# EAGLE library part TX24-50R-6ST-H1E (library con-jae)
CONN RCPT 1.27MM 50POS GOLD PCB
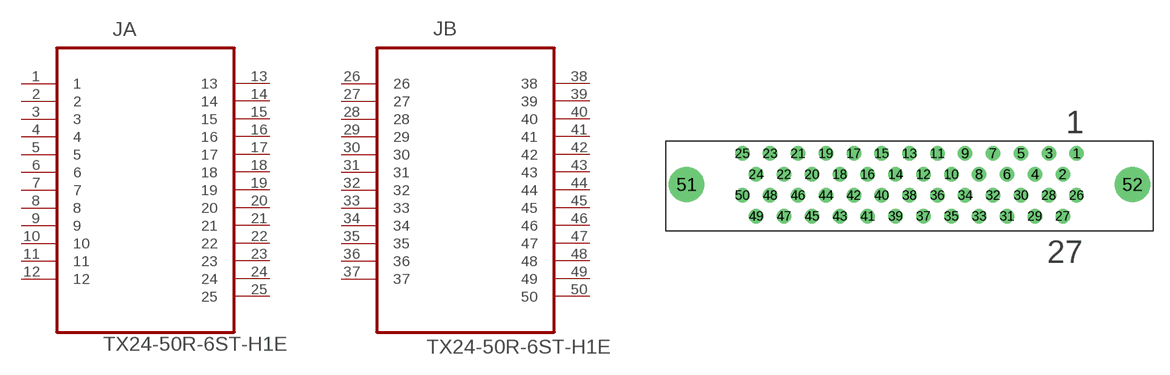
[diagram p12: symbol with the pads of JAE_TX24-50R-6ST-H1E; footprint JAE_TX24-50R-6ST-H1E]

Designator prefix J; gates A=TX24-50R-6ST-H1E_A B=TX24-50R-6ST-H1E_B

## TX24-50R-6ST-H1E (DATASHEETLINK: http://www.jae.com/z-en/pdf_download_exec.cfm?param=SJ037994.pdf; DESCRIPTION: CONN-50POS; MPN: TX24-50R-6ST-H1E; OC_FARNELL: -; OC_NEWARK: 74M4879; ROHS: Yes; SUPPLIER: JAE)  [JAE_TX24-50R-6ST-H1E]
1  A:1  pas
2  A:2  pas
3  A:3  pas
4  A:4  pas
5  A:5  pas
6  A:6  pas
7  A:7  pas
8  A:8  pas
9  A:9  pas
10  A:10  pas
11  A:11  pas
12  A:12  pas
13  A:13  pas
14  A:14  pas
15  A:15  pas
16  A:16  pas
17  A:17  pas
18  A:18  pas
19  A:19  pas
20  A:20  pas
21  A:21  pas
22  A:22  pas
23  A:23  pas
24  A:24  pas
25  A:25  pas
26  B:26  pas
27  B:27  pas
28  B:28  pas
29  B:29  pas
30  B:30  pas
31  B:31  pas
32  B:32  pas
33  B:33  pas
34  B:34  pas
35  B:35  pas
36  B:36  pas
37  B:37  pas
38  B:38  pas
39  B:39  pas
40  B:40  pas
41  B:41  pas
42  B:42  pas
43  B:43  pas
44  B:44  pas
45  B:45  pas
46  B:46  pas
47  B:47  pas
48  B:48  pas
49  B:49  pas
50  B:50  pas

## Footprint JAE_TX24-50R-6ST-H1E (pad centres in mm)
drill 0.813: 1 15.24,-1.143; 2 13.97,-3.048; 3 12.7,-1.143; 4 11.43,-3.048; 5 10.16,-1.143; 6 8.89,-3.048; 7 7.62,-1.143; 8 6.35,-3.048; 9 5.08,-1.143; 10 3.81,-3.048; 11 2.54,-1.143; 12 1.27,-3.048; 13 0,-1.143; 14 -1.27,-3.048; 15 -2.54,-1.143; 16 -3.81,-3.048; 17 -5.08,-1.143; 18 -6.35,-3.048; 19 -7.62,-1.143; 20 -8.89,-3.048; 21 -10.16,-1.143; 22 -11.43,-3.048; 23 -12.7,-1.143; 24 -13.97,-3.048; 25 -15.24,-1.143; 26 15.24,-4.953; 27 13.97,-6.858; 28 12.7,-4.953; 29 11.43,-6.858; 30 10.16,-4.953; 31 8.89,-6.858; 32 7.62,-4.953; 33 6.35,-6.858; 34 5.08,-4.953; 35 3.81,-6.858; 36 2.54,-4.953; 37 1.27,-6.858; 38 0,-4.953; 39 -1.27,-6.858; 40 -2.54,-4.953; 41 -3.81,-6.858; 42 -5.08,-4.953; 43 -6.35,-6.858; 44 -7.62,-4.953; 45 -8.89,-6.858; 46 -10.16,-4.953; 47 -11.43,-6.858; 48 -12.7,-4.953; 49 -13.97,-6.858; 50 -15.24,-4.953
drill 2.21: 51 -20.32,-3.988; 52 20.32,-3.988